# Altium footprint library TerminalBlock.PcbLib: 56 footprints (part 4 of 4)
Each footprint in its own frame and in the unit in brackets; x right, y up, seen from the top. Pads: shape width x height; smd on the part's side, far side on the other; paste and mask are expansions set on the pad; w line width, h text height; cw(c..) or ccw(c..) is an arc to the next point about the centre after c.
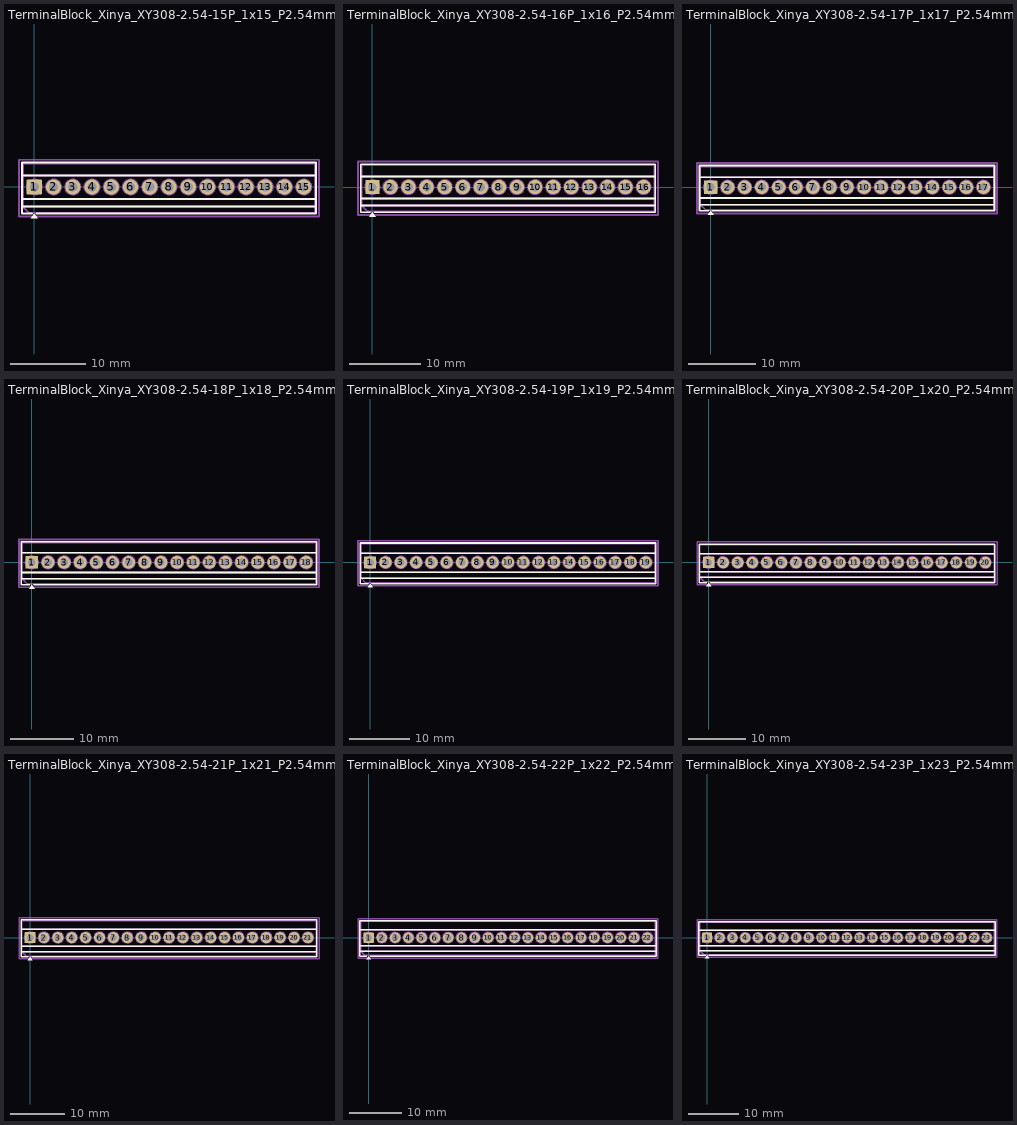
[diagram p3: the footprints below, top view; thin cyan lines are the x and y axes]

## TerminalBlock_Xinya_XY308-2.54-15P_1x15_P2.54mm_Horizontal [mm]
pads (15):
  rrect12% 2x2 hole 1.2: 1(0,0)
  round 2 hole 1.2: 2(2.54,0) 3(5.08,0) 4(7.62,0) 5(10.16,0) 6(12.7,0) 7(15.24,0) 8(17.78,0) 9(20.32,0) 10(22.86,0) 11(25.4,0) 12(27.94,0) 13(30.48,0) 14(33.02,0) 15(35.56,0)
F.SilkS:
  region: 0.44,-4.13 -0.44,-4.13 0,-3.52
  lines w0.254: -1.64,-2.6 37.2,-2.6 ; -1.64,-1.6 37.2,-1.6 ; -1.64,1.5 37.2,1.5 ; -0.3,-3.52 -1.64,-3.52 -1.64,3.22 37.2,3.22 37.2,-3.52 0.3,-3.52
F.Fab:
  circle w0.254: c0,0 r1
  circle w0.254: c2.54,0 r1
  circle w0.254: c5.08,0 r1
  circle w0.254: c7.62,0 r1
  circle w0.254: c10.16,0 r1
  circle w0.254: c12.7,0 r1
  circle w0.254: c15.24,0 r1
  circle w0.254: c17.78,0 r1
  circle w0.254: c20.32,0 r1
  circle w0.254: c22.86,0 r1
  circle w0.254: c25.4,0 r1
  circle w0.254: c27.94,0 r1
  circle w0.254: c30.48,0 r1
  circle w0.254: c33.02,0 r1
  circle w0.254: c35.56,0 r1
  lines w0.254: -1.52,-1.6 37.08,-1.6 ; -1.52,1.5 37.08,1.5 ; -0.758,-0.636 0.636,0.758 ; -0.636,-0.758 0.758,0.636 ; 1.782,-0.636 3.176,0.758 ; 1.904,-0.758 3.298,0.636 ; 4.322,-0.636 5.716,0.758 ; 4.444,-0.758 5.838,0.636 ; 6.862,-0.636 8.256,0.758 ; 6.984,-0.758 8.378,0.636 ; 9.402,-0.636 10.796,0.758 ; 9.524,-0.758 10.918,0.636 ; 11.942,-0.636 13.336,0.758 ; 12.064,-0.758 13.458,0.636 ; 14.482,-0.636 15.876,0.758 ; 14.604,-0.758 15.998,0.636 ; 17.022,-0.636 18.416,0.758 ; 17.144,-0.758 18.538,0.636 ; 19.562,-0.636 20.956,0.758 ; 19.684,-0.758 21.078,0.636 ; 22.102,-0.636 23.496,0.758 ; 22.224,-0.758 23.618,0.636 ; 24.642,-0.636 26.036,0.758 ; 24.764,-0.758 26.158,0.636 ; 27.182,-0.636 28.576,0.758 ; 27.304,-0.758 28.698,0.636 ; 29.722,-0.636 31.116,0.758 ; 29.844,-0.758 31.238,0.636 ; 32.262,-0.636 33.656,0.758 ; 32.384,-0.758 33.778,0.636 ; 34.802,-0.636 36.196,0.758 ; 34.924,-0.758 36.318,0.636 ; 37.08,-2.6 -1.52,-2.6 ; -1.52,-2.6 -1.52,3.1 37.08,3.1 37.08,-3.4 -0.72,-3.4 -1.52,-2.6
  text "'.Designator'" at 13.733,-2.99 h1
F.CrtYd:
  lines w0.254: -2.02,-3.9 -2.02,3.6 37.58,3.6 37.58,-3.9 -2.02,-3.9

## TerminalBlock_Xinya_XY308-2.54-16P_1x16_P2.54mm_Horizontal [mm]
pads (16):
  rrect12% 2x2 hole 1.2: 1(0,0)
  round 2 hole 1.2: 2(2.54,0) 3(5.08,0) 4(7.62,0) 5(10.16,0) 6(12.7,0) 7(15.24,0) 8(17.78,0) 9(20.32,0) 10(22.86,0) 11(25.4,0) 12(27.94,0) 13(30.48,0) 14(33.02,0) 15(35.56,0) 16(38.1,0)
F.SilkS:
  region: 0.44,-4.13 -0.44,-4.13 0,-3.52
  lines w0.254: -1.64,-2.6 39.74,-2.6 ; -1.64,-1.6 39.74,-1.6 ; -1.64,1.5 39.74,1.5 ; -0.3,-3.52 -1.64,-3.52 -1.64,3.22 39.74,3.22 39.74,-3.52 0.3,-3.52
F.Fab:
  circle w0.254: c0,0 r1
  circle w0.254: c2.54,0 r1
  circle w0.254: c5.08,0 r1
  circle w0.254: c7.62,0 r1
  circle w0.254: c10.16,0 r1
  circle w0.254: c12.7,0 r1
  circle w0.254: c15.24,0 r1
  circle w0.254: c17.78,0 r1
  circle w0.254: c20.32,0 r1
  circle w0.254: c22.86,0 r1
  circle w0.254: c25.4,0 r1
  circle w0.254: c27.94,0 r1
  circle w0.254: c30.48,0 r1
  circle w0.254: c33.02,0 r1
  circle w0.254: c35.56,0 r1
  circle w0.254: c38.1,0 r1
  lines w0.254: -1.52,-1.6 39.62,-1.6 ; -1.52,1.5 39.62,1.5 ; -0.758,-0.636 0.636,0.758 ; -0.636,-0.758 0.758,0.636 ; 1.782,-0.636 3.176,0.758 ; 1.904,-0.758 3.298,0.636 ; 4.322,-0.636 5.716,0.758 ; 4.444,-0.758 5.838,0.636 ; 6.862,-0.636 8.256,0.758 ; 6.984,-0.758 8.378,0.636 ; 9.402,-0.636 10.796,0.758 ; 9.524,-0.758 10.918,0.636 ; 11.942,-0.636 13.336,0.758 ; 12.064,-0.758 13.458,0.636 ; 14.482,-0.636 15.876,0.758 ; 14.604,-0.758 15.998,0.636 ; 17.022,-0.636 18.416,0.758 ; 17.144,-0.758 18.538,0.636 ; 19.562,-0.636 20.956,0.758 ; 19.684,-0.758 21.078,0.636 ; 22.102,-0.636 23.496,0.758 ; 22.224,-0.758 23.618,0.636 ; 24.642,-0.636 26.036,0.758 ; 24.764,-0.758 26.158,0.636 ; 27.182,-0.636 28.576,0.758 ; 27.304,-0.758 28.698,0.636 ; 29.722,-0.636 31.116,0.758 ; 29.844,-0.758 31.238,0.636 ; 32.262,-0.636 33.656,0.758 ; 32.384,-0.758 33.778,0.636 ; 34.802,-0.636 36.196,0.758 ; 34.924,-0.758 36.318,0.636 ; 37.342,-0.636 38.736,0.758 ; 37.464,-0.758 38.858,0.636 ; 39.62,-2.6 -1.52,-2.6 ; -1.52,-2.6 -1.52,3.1 39.62,3.1 39.62,-3.4 -0.72,-3.4 -1.52,-2.6
  text "'.Designator'" at 15.003,-2.99 h1
F.CrtYd:
  lines w0.254: -2.02,-3.9 -2.02,3.6 40.12,3.6 40.12,-3.9 -2.02,-3.9

## TerminalBlock_Xinya_XY308-2.54-17P_1x17_P2.54mm_Horizontal [mm]
pads (17):
  rrect12% 2x2 hole 1.2: 1(0,0)
  round 2 hole 1.2: 2(2.54,0) 3(5.08,0) 4(7.62,0) 5(10.16,0) 6(12.7,0) 7(15.24,0) 8(17.78,0) 9(20.32,0) 10(22.86,0) 11(25.4,0) 12(27.94,0) 13(30.48,0) 14(33.02,0) 15(35.56,0) 16(38.1,0) 17(40.64,0)
F.SilkS:
  region: 0.44,-4.13 -0.44,-4.13 0,-3.52
  lines w0.254: -1.64,-2.6 42.28,-2.6 ; -1.64,-1.6 42.28,-1.6 ; -1.64,1.5 42.28,1.5 ; -0.3,-3.52 -1.64,-3.52 -1.64,3.22 42.28,3.22 42.28,-3.52 0.3,-3.52
F.Fab:
  circle w0.254: c0,0 r1
  circle w0.254: c2.54,0 r1
  circle w0.254: c5.08,0 r1
  circle w0.254: c7.62,0 r1
  circle w0.254: c10.16,0 r1
  circle w0.254: c12.7,0 r1
  circle w0.254: c15.24,0 r1
  circle w0.254: c17.78,0 r1
  circle w0.254: c20.32,0 r1
  circle w0.254: c22.86,0 r1
  circle w0.254: c25.4,0 r1
  circle w0.254: c27.94,0 r1
  circle w0.254: c30.48,0 r1
  circle w0.254: c33.02,0 r1
  circle w0.254: c35.56,0 r1
  circle w0.254: c38.1,0 r1
  circle w0.254: c40.64,0 r1
  lines w0.254: -1.52,-1.6 42.16,-1.6 ; -1.52,1.5 42.16,1.5 ; -0.758,-0.636 0.636,0.758 ; -0.636,-0.758 0.758,0.636 ; 1.782,-0.636 3.176,0.758 ; 1.904,-0.758 3.298,0.636 ; 4.322,-0.636 5.716,0.758 ; 4.444,-0.758 5.838,0.636 ; 6.862,-0.636 8.256,0.758 ; 6.984,-0.758 8.378,0.636 ; 9.402,-0.636 10.796,0.758 ; 9.524,-0.758 10.918,0.636 ; 11.942,-0.636 13.336,0.758 ; 12.064,-0.758 13.458,0.636 ; 14.482,-0.636 15.876,0.758 ; 14.604,-0.758 15.998,0.636 ; 17.022,-0.636 18.416,0.758 ; 17.144,-0.758 18.538,0.636 ; 19.562,-0.636 20.956,0.758 ; 19.684,-0.758 21.078,0.636 ; 22.102,-0.636 23.496,0.758 ; 22.224,-0.758 23.618,0.636 ; 24.642,-0.636 26.036,0.758 ; 24.764,-0.758 26.158,0.636 ; 27.182,-0.636 28.576,0.758 ; 27.304,-0.758 28.698,0.636 ; 29.722,-0.636 31.116,0.758 ; 29.844,-0.758 31.238,0.636 ; 32.262,-0.636 33.656,0.758 ; 32.384,-0.758 33.778,0.636 ; 34.802,-0.636 36.196,0.758 ; 34.924,-0.758 36.318,0.636 ; 37.342,-0.636 38.736,0.758 ; 37.464,-0.758 38.858,0.636 ; 39.882,-0.636 41.276,0.758 ; 40.004,-0.758 41.398,0.636 ; 42.16,-2.6 -1.52,-2.6 ; -1.52,-2.6 -1.52,3.1 42.16,3.1 42.16,-3.4 -0.72,-3.4 -1.52,-2.6
  text "'.Designator'" at 16.273,-2.99 h1
F.CrtYd:
  lines w0.254: -2.02,-3.9 -2.02,3.6 42.66,3.6 42.66,-3.9 -2.02,-3.9

## TerminalBlock_Xinya_XY308-2.54-18P_1x18_P2.54mm_Horizontal [mm]
pads (18):
  rrect12% 2x2 hole 1.2: 1(0,0)
  round 2 hole 1.2: 2(2.54,0) 3(5.08,0) 4(7.62,0) 5(10.16,0) 6(12.7,0) 7(15.24,0) 8(17.78,0) 9(20.32,0) 10(22.86,0) 11(25.4,0) 12(27.94,0) 13(30.48,0) 14(33.02,0) 15(35.56,0) 16(38.1,0) 17(40.64,0) 18(43.18,0)
F.SilkS:
  region: 0.44,-4.13 -0.44,-4.13 0,-3.52
  lines w0.254: -1.64,-2.6 44.82,-2.6 ; -1.64,-1.6 44.82,-1.6 ; -1.64,1.5 44.82,1.5 ; -0.3,-3.52 -1.64,-3.52 -1.64,3.22 44.82,3.22 44.82,-3.52 0.3,-3.52
F.Fab:
  circle w0.254: c0,0 r1
  circle w0.254: c2.54,0 r1
  circle w0.254: c5.08,0 r1
  circle w0.254: c7.62,0 r1
  circle w0.254: c10.16,0 r1
  circle w0.254: c12.7,0 r1
  circle w0.254: c15.24,0 r1
  circle w0.254: c17.78,0 r1
  circle w0.254: c20.32,0 r1
  circle w0.254: c22.86,0 r1
  circle w0.254: c25.4,0 r1
  circle w0.254: c27.94,0 r1
  circle w0.254: c30.48,0 r1
  circle w0.254: c33.02,0 r1
  circle w0.254: c35.56,0 r1
  circle w0.254: c38.1,0 r1
  circle w0.254: c40.64,0 r1
  circle w0.254: c43.18,0 r1
  lines w0.254: -1.52,-1.6 44.7,-1.6 ; -1.52,1.5 44.7,1.5 ; -0.758,-0.636 0.636,0.758 ; -0.636,-0.758 0.758,0.636 ; 1.782,-0.636 3.176,0.758 ; 1.904,-0.758 3.298,0.636 ; 4.322,-0.636 5.716,0.758 ; 4.444,-0.758 5.838,0.636 ; 6.862,-0.636 8.256,0.758 ; 6.984,-0.758 8.378,0.636 ; 9.402,-0.636 10.796,0.758 ; 9.524,-0.758 10.918,0.636 ; 11.942,-0.636 13.336,0.758 ; 12.064,-0.758 13.458,0.636 ; 14.482,-0.636 15.876,0.758 ; 14.604,-0.758 15.998,0.636 ; 17.022,-0.636 18.416,0.758 ; 17.144,-0.758 18.538,0.636 ; 19.562,-0.636 20.956,0.758 ; 19.684,-0.758 21.078,0.636 ; 22.102,-0.636 23.496,0.758 ; 22.224,-0.758 23.618,0.636 ; 24.642,-0.636 26.036,0.758 ; 24.764,-0.758 26.158,0.636 ; 27.182,-0.636 28.576,0.758 ; 27.304,-0.758 28.698,0.636 ; 29.722,-0.636 31.116,0.758 ; 29.844,-0.758 31.238,0.636 ; 32.262,-0.636 33.656,0.758 ; 32.384,-0.758 33.778,0.636 ; 34.802,-0.636 36.196,0.758 ; 34.924,-0.758 36.318,0.636 ; 37.342,-0.636 38.736,0.758 ; 37.464,-0.758 38.858,0.636 ; 39.882,-0.636 41.276,0.758 ; 40.004,-0.758 41.398,0.636 ; 42.422,-0.636 43.816,0.758 ; 42.544,-0.758 43.938,0.636 ; 44.7,-2.6 -1.52,-2.6 ; -1.52,-2.6 -1.52,3.1 44.7,3.1 44.7,-3.4 -0.72,-3.4 -1.52,-2.6
  text "'.Designator'" at 17.543,-2.99 h1
F.CrtYd:
  lines w0.254: -2.02,-3.9 -2.02,3.6 45.2,3.6 45.2,-3.9 -2.02,-3.9

## TerminalBlock_Xinya_XY308-2.54-19P_1x19_P2.54mm_Horizontal [mm]
pads (19):
  rrect12% 2x2 hole 1.2: 1(0,0)
  round 2 hole 1.2: 2(2.54,0) 3(5.08,0) 4(7.62,0) 5(10.16,0) 6(12.7,0) 7(15.24,0) 8(17.78,0) 9(20.32,0) 10(22.86,0) 11(25.4,0) 12(27.94,0) 13(30.48,0) 14(33.02,0) 15(35.56,0) 16(38.1,0) 17(40.64,0) 18(43.18,0) 19(45.72,0)
F.SilkS:
  region: 0.44,-4.13 -0.44,-4.13 0,-3.52
  lines w0.254: -1.64,-2.6 47.36,-2.6 ; -1.64,-1.6 47.36,-1.6 ; -1.64,1.5 47.36,1.5 ; -0.3,-3.52 -1.64,-3.52 -1.64,3.22 47.36,3.22 47.36,-3.52 0.3,-3.52
F.Fab:
  circle w0.254: c0,0 r1
  circle w0.254: c2.54,0 r1
  circle w0.254: c5.08,0 r1
  circle w0.254: c7.62,0 r1
  circle w0.254: c10.16,0 r1
  circle w0.254: c12.7,0 r1
  circle w0.254: c15.24,0 r1
  circle w0.254: c17.78,0 r1
  circle w0.254: c20.32,0 r1
  circle w0.254: c22.86,0 r1
  circle w0.254: c25.4,0 r1
  circle w0.254: c27.94,0 r1
  circle w0.254: c30.48,0 r1
  circle w0.254: c33.02,0 r1
  circle w0.254: c35.56,0 r1
  circle w0.254: c38.1,0 r1
  circle w0.254: c40.64,0 r1
  circle w0.254: c43.18,0 r1
  circle w0.254: c45.72,0 r1
  lines w0.254: -1.52,-1.6 47.24,-1.6 ; -1.52,1.5 47.24,1.5 ; -0.758,-0.636 0.636,0.758 ; -0.636,-0.758 0.758,0.636 ; 1.782,-0.636 3.176,0.758 ; 1.904,-0.758 3.298,0.636 ; 4.322,-0.636 5.716,0.758 ; 4.444,-0.758 5.838,0.636 ; 6.862,-0.636 8.256,0.758 ; 6.984,-0.758 8.378,0.636 ; 9.402,-0.636 10.796,0.758 ; 9.524,-0.758 10.918,0.636 ; 11.942,-0.636 13.336,0.758 ; 12.064,-0.758 13.458,0.636 ; 14.482,-0.636 15.876,0.758 ; 14.604,-0.758 15.998,0.636 ; 17.022,-0.636 18.416,0.758 ; 17.144,-0.758 18.538,0.636 ; 19.562,-0.636 20.956,0.758 ; 19.684,-0.758 21.078,0.636 ; 22.102,-0.636 23.496,0.758 ; 22.224,-0.758 23.618,0.636 ; 24.642,-0.636 26.036,0.758 ; 24.764,-0.758 26.158,0.636 ; 27.182,-0.636 28.576,0.758 ; 27.304,-0.758 28.698,0.636 ; 29.722,-0.636 31.116,0.758 ; 29.844,-0.758 31.238,0.636 ; 32.262,-0.636 33.656,0.758 ; 32.384,-0.758 33.778,0.636 ; 34.802,-0.636 36.196,0.758 ; 34.924,-0.758 36.318,0.636 ; 37.342,-0.636 38.736,0.758 ; 37.464,-0.758 38.858,0.636 ; 39.882,-0.636 41.276,0.758 ; 40.004,-0.758 41.398,0.636 ; 42.422,-0.636 43.816,0.758 ; 42.544,-0.758 43.938,0.636 ; 44.962,-0.636 46.356,0.758 ; 45.084,-0.758 46.478,0.636 ; 47.24,-2.6 -1.52,-2.6 ; -1.52,-2.6 -1.52,3.1 47.24,3.1 47.24,-3.4 -0.72,-3.4 -1.52,-2.6
  text "'.Designator'" at 18.813,-2.99 h1
F.CrtYd:
  lines w0.254: -2.02,-3.9 -2.02,3.6 47.74,3.6 47.74,-3.9 -2.02,-3.9

## TerminalBlock_Xinya_XY308-2.54-20P_1x20_P2.54mm_Horizontal [mm]
pads (20):
  rrect12% 2x2 hole 1.2: 1(0,0)
  round 2 hole 1.2: 2(2.54,0) 3(5.08,0) 4(7.62,0) 5(10.16,0) 6(12.7,0) 7(15.24,0) 8(17.78,0) 9(20.32,0) 10(22.86,0) 11(25.4,0) 12(27.94,0) 13(30.48,0) 14(33.02,0) 15(35.56,0) 16(38.1,0) 17(40.64,0) 18(43.18,0) 19(45.72,0) 20(48.26,0)
F.SilkS:
  region: 0.44,-4.13 -0.44,-4.13 0,-3.52
  lines w0.254: -1.64,-2.6 49.9,-2.6 ; -1.64,-1.6 49.9,-1.6 ; -1.64,1.5 49.9,1.5 ; -0.3,-3.52 -1.64,-3.52 -1.64,3.22 49.9,3.22 49.9,-3.52 0.3,-3.52
F.Fab:
  circle w0.254: c0,0 r1
  circle w0.254: c2.54,0 r1
  circle w0.254: c5.08,0 r1
  circle w0.254: c7.62,0 r1
  circle w0.254: c10.16,0 r1
  circle w0.254: c12.7,0 r1
  circle w0.254: c15.24,0 r1
  circle w0.254: c17.78,0 r1
  circle w0.254: c20.32,0 r1
  circle w0.254: c22.86,0 r1
  circle w0.254: c25.4,0 r1
  circle w0.254: c27.94,0 r1
  circle w0.254: c30.48,0 r1
  circle w0.254: c33.02,0 r1
  circle w0.254: c35.56,0 r1
  circle w0.254: c38.1,0 r1
  circle w0.254: c40.64,0 r1
  circle w0.254: c43.18,0 r1
  circle w0.254: c45.72,0 r1
  circle w0.254: c48.26,0 r1
  lines w0.254: -1.52,-1.6 49.78,-1.6 ; -1.52,1.5 49.78,1.5 ; -0.758,-0.636 0.636,0.758 ; -0.636,-0.758 0.758,0.636 ; 1.782,-0.636 3.176,0.758 ; 1.904,-0.758 3.298,0.636 ; 4.322,-0.636 5.716,0.758 ; 4.444,-0.758 5.838,0.636 ; 6.862,-0.636 8.256,0.758 ; 6.984,-0.758 8.378,0.636 ; 9.402,-0.636 10.796,0.758 ; 9.524,-0.758 10.918,0.636 ; 11.942,-0.636 13.336,0.758 ; 12.064,-0.758 13.458,0.636 ; 14.482,-0.636 15.876,0.758 ; 14.604,-0.758 15.998,0.636 ; 17.022,-0.636 18.416,0.758 ; 17.144,-0.758 18.538,0.636 ; 19.562,-0.636 20.956,0.758 ; 19.684,-0.758 21.078,0.636 ; 22.102,-0.636 23.496,0.758 ; 22.224,-0.758 23.618,0.636 ; 24.642,-0.636 26.036,0.758 ; 24.764,-0.758 26.158,0.636 ; 27.182,-0.636 28.576,0.758 ; 27.304,-0.758 28.698,0.636 ; 29.722,-0.636 31.116,0.758 ; 29.844,-0.758 31.238,0.636 ; 32.262,-0.636 33.656,0.758 ; 32.384,-0.758 33.778,0.636 ; 34.802,-0.636 36.196,0.758 ; 34.924,-0.758 36.318,0.636 ; 37.342,-0.636 38.736,0.758 ; 37.464,-0.758 38.858,0.636 ; 39.882,-0.636 41.276,0.758 ; 40.004,-0.758 41.398,0.636 ; 42.422,-0.636 43.816,0.758 ; 42.544,-0.758 43.938,0.636 ; 44.962,-0.636 46.356,0.758 ; 45.084,-0.758 46.478,0.636 ; 47.502,-0.636 48.896,0.758 ; 47.624,-0.758 49.018,0.636 ; 49.78,-2.6 -1.52,-2.6 ; -1.52,-2.6 -1.52,3.1 49.78,3.1 49.78,-3.4 -0.72,-3.4 -1.52,-2.6
  text "'.Designator'" at 20.083,-2.99 h1
F.CrtYd:
  lines w0.254: -2.02,-3.9 -2.02,3.6 50.28,3.6 50.28,-3.9 -2.02,-3.9

## TerminalBlock_Xinya_XY308-2.54-21P_1x21_P2.54mm_Horizontal [mm]
pads (21):
  rrect12% 2x2 hole 1.2: 1(0,0)
  round 2 hole 1.2: 2(2.54,0) 3(5.08,0) 4(7.62,0) 5(10.16,0) 6(12.7,0) 7(15.24,0) 8(17.78,0) 9(20.32,0) 10(22.86,0) 11(25.4,0) 12(27.94,0) 13(30.48,0) 14(33.02,0) 15(35.56,0) 16(38.1,0) 17(40.64,0) 18(43.18,0) 19(45.72,0) 20(48.26,0) 21(50.8,0)
F.SilkS:
  region: 0.44,-4.13 -0.44,-4.13 0,-3.52
  lines w0.254: -1.64,-2.6 52.44,-2.6 ; -1.64,-1.6 52.44,-1.6 ; -1.64,1.5 52.44,1.5 ; -0.3,-3.52 -1.64,-3.52 -1.64,3.22 52.44,3.22 52.44,-3.52 0.3,-3.52
F.Fab:
  circle w0.254: c0,0 r1
  circle w0.254: c2.54,0 r1
  circle w0.254: c5.08,0 r1
  circle w0.254: c7.62,0 r1
  circle w0.254: c10.16,0 r1
  circle w0.254: c12.7,0 r1
  circle w0.254: c15.24,0 r1
  circle w0.254: c17.78,0 r1
  circle w0.254: c20.32,0 r1
  circle w0.254: c22.86,0 r1
  circle w0.254: c25.4,0 r1
  circle w0.254: c27.94,0 r1
  circle w0.254: c30.48,0 r1
  circle w0.254: c33.02,0 r1
  circle w0.254: c35.56,0 r1
  circle w0.254: c38.1,0 r1
  circle w0.254: c40.64,0 r1
  circle w0.254: c43.18,0 r1
  circle w0.254: c45.72,0 r1
  circle w0.254: c48.26,0 r1
  circle w0.254: c50.8,0 r1
  lines w0.254: -1.52,-1.6 52.32,-1.6 ; -1.52,1.5 52.32,1.5 ; -0.758,-0.636 0.636,0.758 ; -0.636,-0.758 0.758,0.636 ; 1.782,-0.636 3.176,0.758 ; 1.904,-0.758 3.298,0.636 ; 4.322,-0.636 5.716,0.758 ; 4.444,-0.758 5.838,0.636 ; 6.862,-0.636 8.256,0.758 ; 6.984,-0.758 8.378,0.636 ; 9.402,-0.636 10.796,0.758 ; 9.524,-0.758 10.918,0.636 ; 11.942,-0.636 13.336,0.758 ; 12.064,-0.758 13.458,0.636 ; 14.482,-0.636 15.876,0.758 ; 14.604,-0.758 15.998,0.636 ; 17.022,-0.636 18.416,0.758 ; 17.144,-0.758 18.538,0.636 ; 19.562,-0.636 20.956,0.758 ; 19.684,-0.758 21.078,0.636 ; 22.102,-0.636 23.496,0.758 ; 22.224,-0.758 23.618,0.636 ; 24.642,-0.636 26.036,0.758 ; 24.764,-0.758 26.158,0.636 ; 27.182,-0.636 28.576,0.758 ; 27.304,-0.758 28.698,0.636 ; 29.722,-0.636 31.116,0.758 ; 29.844,-0.758 31.238,0.636 ; 32.262,-0.636 33.656,0.758 ; 32.384,-0.758 33.778,0.636 ; 34.802,-0.636 36.196,0.758 ; 34.924,-0.758 36.318,0.636 ; 37.342,-0.636 38.736,0.758 ; 37.464,-0.758 38.858,0.636 ; 39.882,-0.636 41.276,0.758 ; 40.004,-0.758 41.398,0.636 ; 42.422,-0.636 43.816,0.758 ; 42.544,-0.758 43.938,0.636 ; 44.962,-0.636 46.356,0.758 ; 45.084,-0.758 46.478,0.636 ; 47.502,-0.636 48.896,0.758 ; 47.624,-0.758 49.018,0.636 ; 50.042,-0.636 51.436,0.758 ; 50.164,-0.758 51.558,0.636 ; 52.32,-2.6 -1.52,-2.6 ; -1.52,-2.6 -1.52,3.1 52.32,3.1 52.32,-3.4 -0.72,-3.4 -1.52,-2.6
  text "'.Designator'" at 21.353,-2.99 h1
F.CrtYd:
  lines w0.254: -2.02,-3.9 -2.02,3.6 52.82,3.6 52.82,-3.9 -2.02,-3.9

## TerminalBlock_Xinya_XY308-2.54-22P_1x22_P2.54mm_Horizontal [mm]
pads (22):
  rrect12% 2x2 hole 1.2: 1(0,0)
  round 2 hole 1.2: 2(2.54,0) 3(5.08,0) 4(7.62,0) 5(10.16,0) 6(12.7,0) 7(15.24,0) 8(17.78,0) 9(20.32,0) 10(22.86,0) 11(25.4,0) 12(27.94,0) 13(30.48,0) 14(33.02,0) 15(35.56,0) 16(38.1,0) 17(40.64,0) 18(43.18,0) 19(45.72,0) 20(48.26,0) 21(50.8,0) 22(53.34,0)
F.SilkS:
  region: 0.44,-4.13 -0.44,-4.13 0,-3.52
  lines w0.254: -1.64,-2.6 54.98,-2.6 ; -1.64,-1.6 54.98,-1.6 ; -1.64,1.5 54.98,1.5 ; -0.3,-3.52 -1.64,-3.52 -1.64,3.22 54.98,3.22 54.98,-3.52 0.3,-3.52
F.Fab:
  circle w0.254: c0,0 r1
  circle w0.254: c2.54,0 r1
  circle w0.254: c5.08,0 r1
  circle w0.254: c7.62,0 r1
  circle w0.254: c10.16,0 r1
  circle w0.254: c12.7,0 r1
  circle w0.254: c15.24,0 r1
  circle w0.254: c17.78,0 r1
  circle w0.254: c20.32,0 r1
  circle w0.254: c22.86,0 r1
  circle w0.254: c25.4,0 r1
  circle w0.254: c27.94,0 r1
  circle w0.254: c30.48,0 r1
  circle w0.254: c33.02,0 r1
  circle w0.254: c35.56,0 r1
  circle w0.254: c38.1,0 r1
  circle w0.254: c40.64,0 r1
  circle w0.254: c43.18,0 r1
  circle w0.254: c45.72,0 r1
  circle w0.254: c48.26,0 r1
  circle w0.254: c50.8,0 r1
  circle w0.254: c53.34,0 r1
  lines w0.254: -1.52,-1.6 54.86,-1.6 ; -1.52,1.5 54.86,1.5 ; -0.758,-0.636 0.636,0.758 ; -0.636,-0.758 0.758,0.636 ; 1.782,-0.636 3.176,0.758 ; 1.904,-0.758 3.298,0.636 ; 4.322,-0.636 5.716,0.758 ; 4.444,-0.758 5.838,0.636 ; 6.862,-0.636 8.256,0.758 ; 6.984,-0.758 8.378,0.636 ; 9.402,-0.636 10.796,0.758 ; 9.524,-0.758 10.918,0.636 ; 11.942,-0.636 13.336,0.758 ; 12.064,-0.758 13.458,0.636 ; 14.482,-0.636 15.876,0.758 ; 14.604,-0.758 15.998,0.636 ; 17.022,-0.636 18.416,0.758 ; 17.144,-0.758 18.538,0.636 ; 19.562,-0.636 20.956,0.758 ; 19.684,-0.758 21.078,0.636 ; 22.102,-0.636 23.496,0.758 ; 22.224,-0.758 23.618,0.636 ; 24.642,-0.636 26.036,0.758 ; 24.764,-0.758 26.158,0.636 ; 27.182,-0.636 28.576,0.758 ; 27.304,-0.758 28.698,0.636 ; 29.722,-0.636 31.116,0.758 ; 29.844,-0.758 31.238,0.636 ; 32.262,-0.636 33.656,0.758 ; 32.384,-0.758 33.778,0.636 ; 34.802,-0.636 36.196,0.758 ; 34.924,-0.758 36.318,0.636 ; 37.342,-0.636 38.736,0.758 ; 37.464,-0.758 38.858,0.636 ; 39.882,-0.636 41.276,0.758 ; 40.004,-0.758 41.398,0.636 ; 42.422,-0.636 43.816,0.758 ; 42.544,-0.758 43.938,0.636 ; 44.962,-0.636 46.356,0.758 ; 45.084,-0.758 46.478,0.636 ; 47.502,-0.636 48.896,0.758 ; 47.624,-0.758 49.018,0.636 ; 50.042,-0.636 51.436,0.758 ; 50.164,-0.758 51.558,0.636 ; 52.582,-0.636 53.976,0.758 ; 52.704,-0.758 54.098,0.636 ; 54.86,-2.6 -1.52,-2.6 ; -1.52,-2.6 -1.52,3.1 54.86,3.1 54.86,-3.4 -0.72,-3.4 -1.52,-2.6
  text "'.Designator'" at 22.623,-2.99 h1
F.CrtYd:
  lines w0.254: -2.02,-3.9 -2.02,3.6 55.36,3.6 55.36,-3.9 -2.02,-3.9

## TerminalBlock_Xinya_XY308-2.54-23P_1x23_P2.54mm_Horizontal [mm]
pads (23):
  rrect12% 2x2 hole 1.2: 1(0,0)
  round 2 hole 1.2: 2(2.54,0) 3(5.08,0) 4(7.62,0) 5(10.16,0) 6(12.7,0) 7(15.24,0) 8(17.78,0) 9(20.32,0) 10(22.86,0) 11(25.4,0) 12(27.94,0) 13(30.48,0) 14(33.02,0) 15(35.56,0) 16(38.1,0) 17(40.64,0) 18(43.18,0) 19(45.72,0) 20(48.26,0) 21(50.8,0) 22(53.34,0) 23(55.88,0)
F.SilkS:
  region: 0.44,-4.13 -0.44,-4.13 0,-3.52
  lines w0.254: -1.64,-2.6 57.52,-2.6 ; -1.64,-1.6 57.52,-1.6 ; -1.64,1.5 57.52,1.5 ; -0.3,-3.52 -1.64,-3.52 -1.64,3.22 57.52,3.22 57.52,-3.52 0.3,-3.52
F.Fab:
  circle w0.254: c0,0 r1
  circle w0.254: c2.54,0 r1
  circle w0.254: c5.08,0 r1
  circle w0.254: c7.62,0 r1
  circle w0.254: c10.16,0 r1
  circle w0.254: c12.7,0 r1
  circle w0.254: c15.24,0 r1
  circle w0.254: c17.78,0 r1
  circle w0.254: c20.32,0 r1
  circle w0.254: c22.86,0 r1
  circle w0.254: c25.4,0 r1
  circle w0.254: c27.94,0 r1
  circle w0.254: c30.48,0 r1
  circle w0.254: c33.02,0 r1
  circle w0.254: c35.56,0 r1
  circle w0.254: c38.1,0 r1
  circle w0.254: c40.64,0 r1
  circle w0.254: c43.18,0 r1
  circle w0.254: c45.72,0 r1
  circle w0.254: c48.26,0 r1
  circle w0.254: c50.8,0 r1
  circle w0.254: c53.34,0 r1
  circle w0.254: c55.88,0 r1
  lines w0.254: -1.52,-1.6 57.4,-1.6 ; -1.52,1.5 57.4,1.5 ; -0.758,-0.636 0.636,0.758 ; -0.636,-0.758 0.758,0.636 ; 1.782,-0.636 3.176,0.758 ; 1.904,-0.758 3.298,0.636 ; 4.322,-0.636 5.716,0.758 ; 4.444,-0.758 5.838,0.636 ; 6.862,-0.636 8.256,0.758 ; 6.984,-0.758 8.378,0.636 ; 9.402,-0.636 10.796,0.758 ; 9.524,-0.758 10.918,0.636 ; 11.942,-0.636 13.336,0.758 ; 12.064,-0.758 13.458,0.636 ; 14.482,-0.636 15.876,0.758 ; 14.604,-0.758 15.998,0.636 ; 17.022,-0.636 18.416,0.758 ; 17.144,-0.758 18.538,0.636 ; 19.562,-0.636 20.956,0.758 ; 19.684,-0.758 21.078,0.636 ; 22.102,-0.636 23.496,0.758 ; 22.224,-0.758 23.618,0.636 ; 24.642,-0.636 26.036,0.758 ; 24.764,-0.758 26.158,0.636 ; 27.182,-0.636 28.576,0.758 ; 27.304,-0.758 28.698,0.636 ; 29.722,-0.636 31.116,0.758 ; 29.844,-0.758 31.238,0.636 ; 32.262,-0.636 33.656,0.758 ; 32.384,-0.758 33.778,0.636 ; 34.802,-0.636 36.196,0.758 ; 34.924,-0.758 36.318,0.636 ; 37.342,-0.636 38.736,0.758 ; 37.464,-0.758 38.858,0.636 ; 39.882,-0.636 41.276,0.758 ; 40.004,-0.758 41.398,0.636 ; 42.422,-0.636 43.816,0.758 ; 42.544,-0.758 43.938,0.636 ; 44.962,-0.636 46.356,0.758 ; 45.084,-0.758 46.478,0.636 ; 47.502,-0.636 48.896,0.758 ; 47.624,-0.758 49.018,0.636 ; 50.042,-0.636 51.436,0.758 ; 50.164,-0.758 51.558,0.636 ; 52.582,-0.636 53.976,0.758 ; 52.704,-0.758 54.098,0.636 ; 55.122,-0.636 56.516,0.758 ; 55.244,-0.758 56.638,0.636 ; 57.4,-2.6 -1.52,-2.6 ; -1.52,-2.6 -1.52,3.1 57.4,3.1 57.4,-3.4 -0.72,-3.4 -1.52,-2.6
  text "'.Designator'" at 23.893,-2.99 h1
F.CrtYd:
  lines w0.254: -2.02,-3.9 -2.02,3.6 57.9,3.6 57.9,-3.9 -2.02,-3.9